# EAGLE library part M20-8900605 (library KVB-connectors)
Connector Header Surface Mount Right Angle 6 position 0.100" (2.54mm) Mate: M20-7910642R
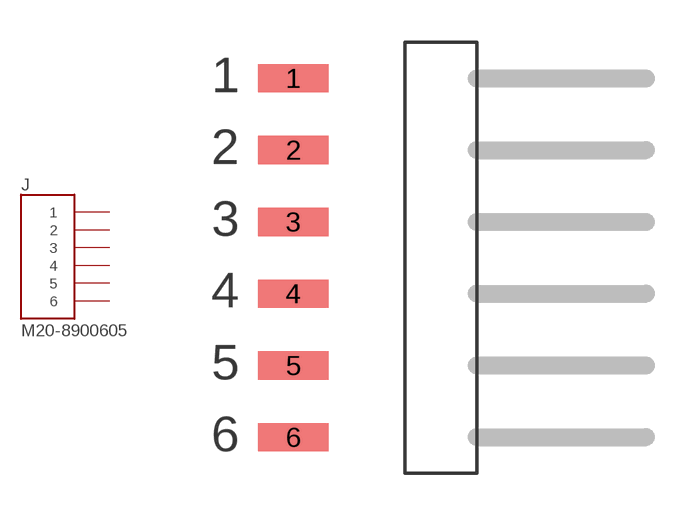
[diagram p16: symbol with the pads of M20-8900605; footprint M20-8900605]

Designator prefix J

## M20-8900605 (MAN-PART_NUM: M20-8900605; MANUFACTURER: Harwin Inc.)  [M20-8900605]
1  1
2  2
3  3
4  4
5  5
6  6

## Footprint M20-8900605 (pad centres in mm)
smd 2.5 x 1: 1 -6.45,6.35; 2 -6.45,3.81; 3 -6.45,1.27; 4 -6.45,-1.27; 5 -6.45,-3.81; 6 -6.45,-6.35